# EAGLE library part LTC3522 (library linear_tech_opendcc)
LTC3522 - Synchronous 400mA Buck-Boost and 200mA Buck Converters Dual High Efficiency DC/DC Converters: Buck-Boost (VOUT: 2.2V to 5.25V, IOUT: 400mA for VIN > 3V, VOUT = 3.3V) Buck (VOUT: 0.6V to VIN, IOUT: 200mA) # 2.4V to 5.5V Input Voltage Range
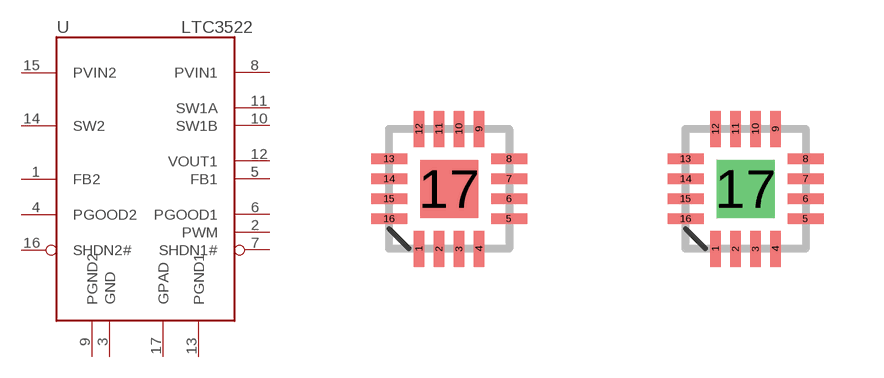
[diagram p11: symbol with the pads of QFN16; footprints QFN16, QFN16-M]

Designator prefix -

## LTC3522_QFN  [QFN16]
1  FB2  pas
2  PWM  pas
3  GND  pwr
4  PGOOD2  pas
5  FB1  pas
6  PGOOD1  pas
7  SHDN1#  pas
8  PVIN1  pas
9  PGND2  pwr
10  SW1B  pas
11  SW1A  pas
12  VOUT1  pas
13  PGND1  pwr
14  SW2  pas
15  PVIN2  pas
16  SHDN2#  pas
17  GPAD  pwr

## LTC3522_QFN_MAN  [QFN16-M]
Pads as for QFN16

## LTC3522_QFN_MR  [QFN16-MR]
Pads as for QFN16

## Footprint QFN16 (pad centres in mm)
QFN16, exposed pad, 0.5mm pitch, 3x3mm
smd 0.26 x 0.9: 1 -0.75,-1.5; 2 -0.25,-1.5; 3 0.25,-1.5; 4 0.75,-1.5; 9 0.75,1.5; 10 0.25,1.5; 11 -0.25,1.5; 12 -0.75,1.5
smd 0.9 x 0.26: 5 1.5,-0.75; 6 1.5,-0.25; 7 1.5,0.25; 8 1.5,0.75; 13 -1.5,0.75; 14 -1.5,0.25; 15 -1.5,-0.25; 16 -1.5,-0.75
smd 1.45 x 1.45: 17 0,0

## Footprint QFN16-M (pad centres in mm)
QFN16, exposed pad, 0.5mm pitch, 3x3mm, manual solder
smd 0.26 x 0.9: 1 -0.75,-1.5; 2 -0.25,-1.5; 3 0.25,-1.5; 4 0.75,-1.5; 9 0.75,1.5; 10 0.25,1.5; 11 -0.25,1.5; 12 -0.75,1.5
smd 0.9 x 0.26: 5 1.5,-0.75; 6 1.5,-0.25; 7 1.5,0.25; 8 1.5,0.75; 13 -1.5,0.75; 14 -1.5,0.25; 15 -1.5,-0.25; 16 -1.5,-0.75
drill 0.8 pad 1.45 square: 17 0,0

## Footprint QFN16-MR (pad centres in mm)
QFN16, exposed pad, 0.5mm pitch, 3x3mm, manual solder, wide
smd 0.26 x 0.9: 1 -0.75,-1.55; 2 -0.25,-1.55; 3 0.25,-1.55; 4 0.75,-1.55; 9 0.75,1.55; 10 0.25,1.55; 11 -0.25,1.55; 12 -0.75,1.55
smd 0.9 x 0.26: 5 1.55,-0.75; 6 1.55,-0.25; 7 1.55,0.25; 8 1.55,0.75; 13 -1.55,0.75; 14 -1.55,0.25; 15 -1.55,-0.25; 16 -1.55,-0.75
drill 0.8 pad 1.45 square: 17 0,0